# EAGLE library part P82B96 (library iceberg20)
I2C Busbuffer 12V Datenblatt: Link <https://cdn-reichelt.de/documents/datenblatt/A200/P82B96_NXP.pdf>
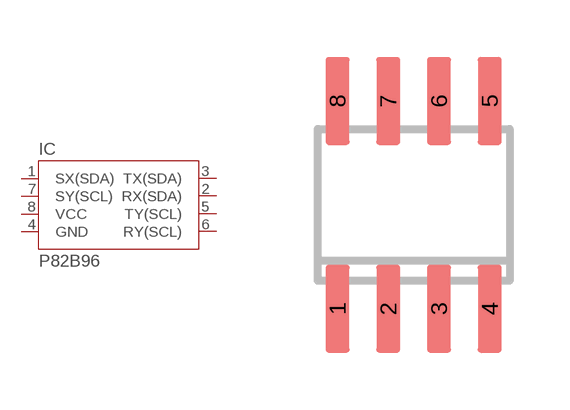
[diagram p16: symbol with the pads of SO8; footprint SO8]

Designator prefix IC

## P82B96 (BESTAND: 0; HERSTELLER: NXP; HERSTELLER-NR: P82B96TD,112; SUPPLIER: reichelt; SUPPLIER-NR: P 82B96 TD)  [SO8]
1  SX(SDA)
2  RX(SDA)
3  TX(SDA)
4  GND  pwr
5  TY(SCL)
6  RY(SCL)
7  SY(SCL)
8  VCC  pwr

## Footprint SO8 (pad centres in mm)
SMALL OUTLINE INTEGRATED CIRCUIT SOP-8L Source: http://www.diodes.com/datasheets/ds31262.pdf
smd 0.6 x 2.2: 1 -1.905,-2.6; 2 -0.635,-2.6; 3 0.635,-2.6; 4 1.905,-2.6; 5 1.905,2.6; 6 0.635,2.6; 7 -0.635,2.6; 8 -1.905,2.6